# EAGLE library part ARIETTA_ARIETTA (library mainboard)
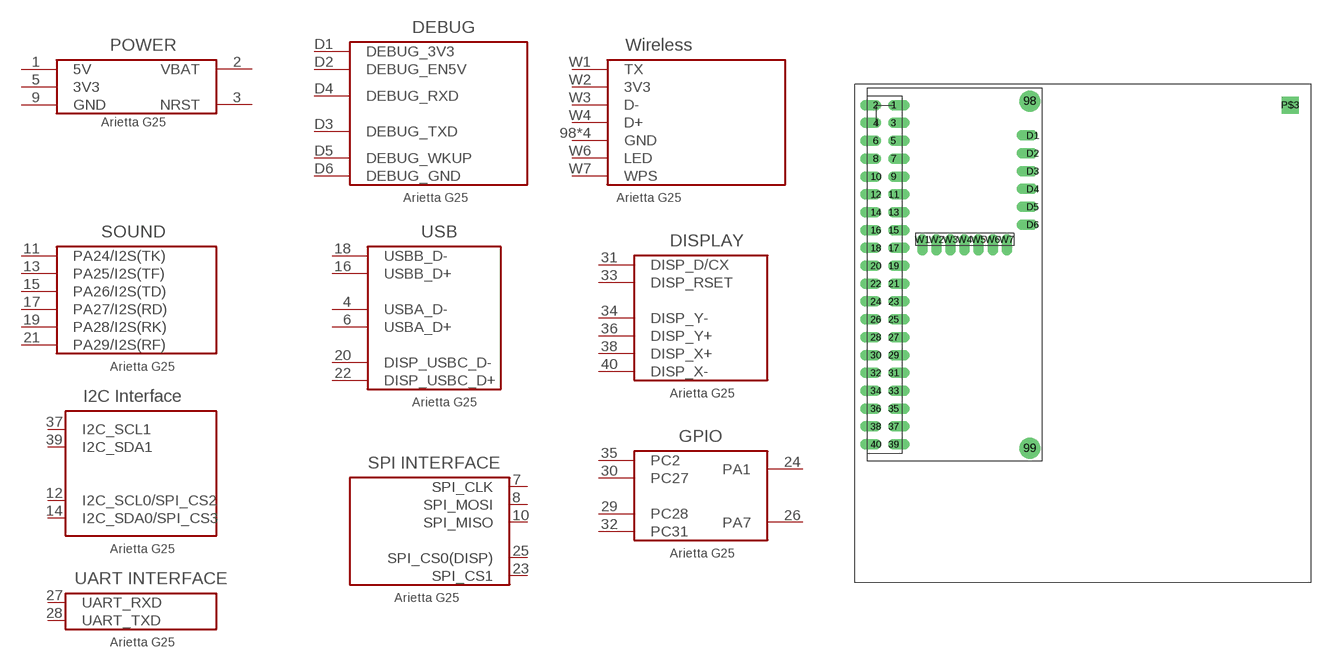
[diagram p7: symbol with the pads of ARIETTA_ARIETTA; footprint ARIETTA_ARIETTA]

Designator prefix -; gates G$1=ARIETTA_WLAN G$2=ARIETTA_DEBUG G$3=ARIETTA_DISPLAY G$4=ARIETTA_SOUND G$5=ARIETTA_I2C G$6=ARIETTA_POWER G$7=ARIETTA_SPI G$8=ARIETTA_UART G$9=ARIETTA_USB G$10=ARIETTA_GPIO

## ARIETTA_ARIETTA  [ARIETTA_ARIETTA]
1  G$6:5V
2  G$6:VBAT
3  G$6:NRST
4  G$9:USBA_D-
5  G$6:3V3
6  G$9:USBA_D+
7  G$7:SPI_CLK
8  G$7:SPI_MOSI
9  G$6:GND
10  G$7:SPI_MISO
11  G$4:PA24/I2S(TK)
12  G$5:I2C_SCL0/SPI_CS2
13  G$4:PA25/I2S(TF)
14  G$5:I2C_SDA0/SPI_CS3
15  G$4:PA26/I2S(TD)
16  G$9:USBB_D+
17  G$4:PA27/I2S(RD)
18  G$9:USBB_D-
19  G$4:PA28/I2S(RK)
20  G$9:DISP_USBC_D-
21  G$4:PA29/I2S(RF)
22  G$9:DISP_USBC_D+
23  G$7:SPI_CS1
24  G$10:PA1
25  G$7:SPI_CS0(DISP)
26  G$10:PA7
27  G$8:UART_RXD
28  G$8:UART_TXD
29  G$10:PC28
30  G$10:PC27
31  G$3:DISP_D/CX
32  G$10:PC31
33  G$3:DISP_RSET
34  G$3:DISP_Y-
35  G$10:PC2
36  G$3:DISP_Y+
37  G$5:I2C_SCL1
38  G$3:DISP_X+
39  G$5:I2C_SDA1
40  G$3:DISP_X-
98  G$1:GND
99  G$1:GND
D1  G$2:DEBUG_3V3
D2  G$2:DEBUG_EN5V
D3  G$2:DEBUG_TXD
D4  G$2:DEBUG_RXD
D5  G$2:DEBUG_WKUP
D6  G$2:DEBUG_GND
P$3  G$1:GND
W1  G$1:TX
W2  G$1:3V3
W3  G$1:D-
W4  G$1:D+
W5  G$1:GND
W6  G$1:LED
W7  G$1:WPS

## Footprint ARIETTA_ARIETTA (pad centres in mm)
drill 1 offset: 1 -8.89,24.13; 2 -11.43,24.13; 3 -8.89,21.59; 4 -11.43,21.59; 5 -8.89,19.05; 6 -11.43,19.05; 7 -8.89,16.51; 8 -11.43,16.51; 9 -8.89,13.97; 10 -11.43,13.97; 11 -8.89,11.43; 12 -11.43,11.43; 13 -8.89,8.89; 14 -11.43,8.89; 15 -8.89,6.35; 16 -11.43,6.35; 17 -8.89,3.81; 18 -11.43,3.81; 19 -8.89,1.27; 20 -11.43,1.27; 21 -8.89,-1.27; 22 -11.43,-1.27; 23 -8.89,-3.81; 24 -11.43,-3.81; 25 -8.89,-6.35; 26 -11.43,-6.35; 27 -8.89,-8.89; 28 -11.43,-8.89; 29 -8.89,-11.43; 30 -11.43,-11.43; 31 -8.89,-13.97; 32 -11.43,-13.97; 33 -8.89,-16.51; 34 -11.43,-16.51; 35 -8.89,-19.05; 36 -11.43,-19.05; 37 -8.89,-21.59; 38 -11.43,-21.59; 39 -8.89,-24.13; 40 -11.43,-24.13; D1 10.89,19.82; D2 10.89,17.28; D3 10.89,14.74; D4 10.89,12.2; D5 10.89,9.66; D6 10.89,7.12; W1 -4.795,5.015; W2 -2.795,5.015; W3 -0.795,5.015; W4 1.205,5.015; W5 3.205,5.015; W6 5.205,5.015; W7 7.205,5.015
drill 2: 98 10.49,24.7; 99 10.49,-24.7
drill 1.6 square: P$3 47.57,24.13